# EAGLE library part TBA820M (library Audio-Power-amlifier V.2.0)
The TBA820M is a monolithic integrated audio amplifier in a 8 lead dual in-line plastic package. It is intended for use as low frequency class B power amplifier with wide range of supply voltage: 3 to 16V, in portable radios, cassette recorders and players etc. Main features are: minimum working supply voltage of 3V, low quiescent current, low number of external components, good ripple rejection, no cross-over distortion, low power dissipation. Output power: Po = 2Wat 12V/8W, 1.6W at 9V/4W and 1.2W at 9V/8W.
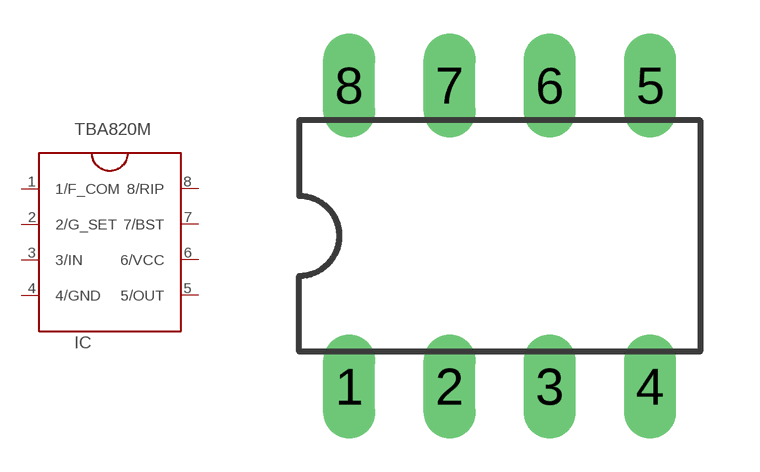
[diagram p110: symbol with the pads of DIL08; footprint DIL08]

Designator prefix IC

## TBA820M  [DIL08]
1  1/F_COM
2  2/G_SET
3  3/IN  in
4  4/GND  pwr
5  5/OUT  out
6  6/VCC  pwr
7  7/BST
8  8/RIP

## Footprint DIL08 (pad centres in mm)
Dual In Line Package
drill 0.813 pad 1.27 long: 1 -3.81,-3.81; 2 -1.27,-3.81; 3 1.27,-3.81; 4 3.81,-3.81; 5 3.81,3.81; 6 1.27,3.81; 7 -1.27,3.81; 8 -3.81,3.81